# Altium schematic symbol library NSC Audio.SchLib: 691 symbols (part 18 of 18)
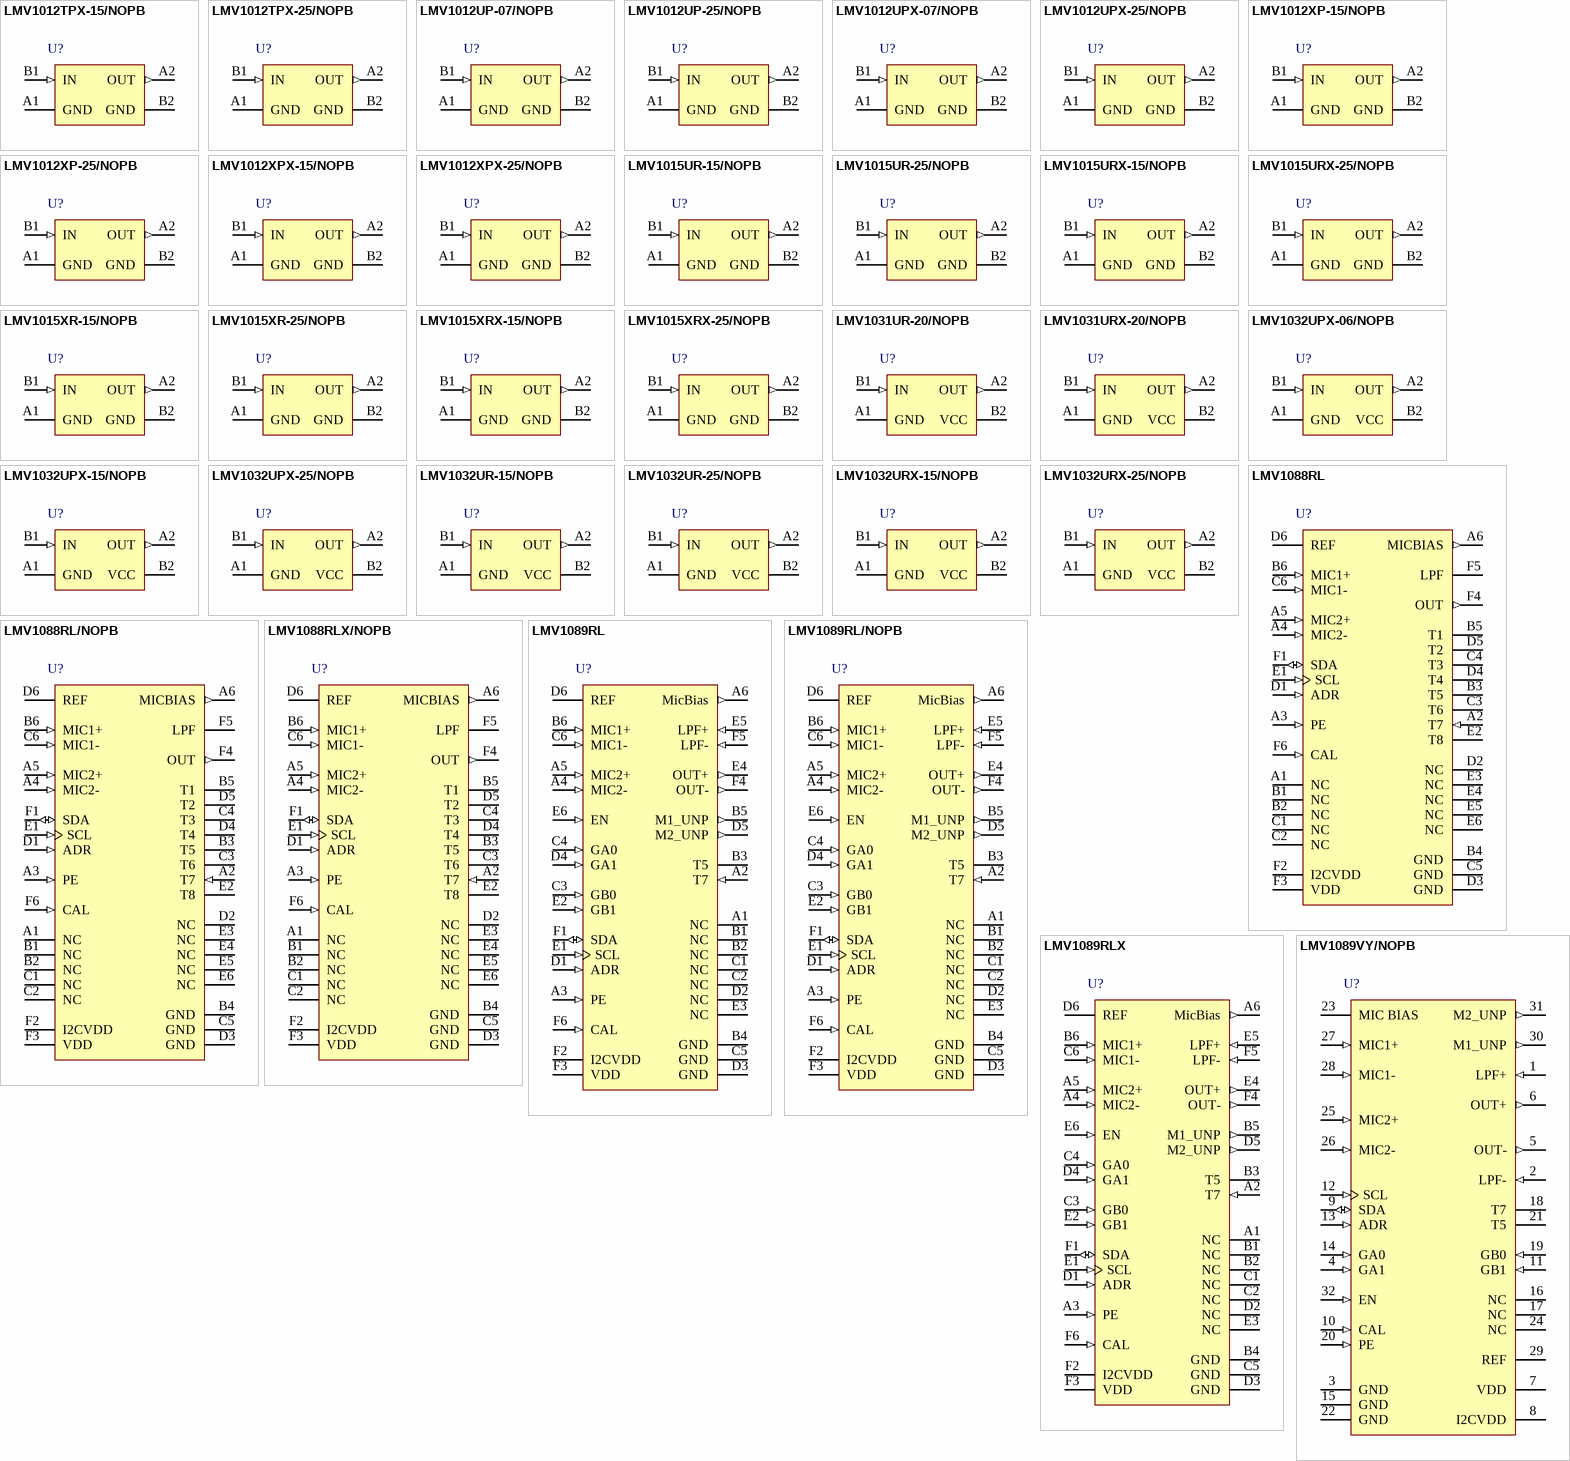
[diagram p44: symbols LMV1012TPX-15/NOPB to LMV1089VY/NOPB]

## LMV1015URX-15/NOPB
designator U?
Analog Series Built-in Gain IC's for High Sensitivity 2-Wire Microphones, 4 pin MICRO SMD; PartNumber: LMV1015URX-15/NOPB; Manufacturer: National Semiconductor; PackageTopMarking: X*I; PowerWise: N; CompType: Audio IC; Published: 16-Nov-2010; DatasheetVersion: May-2005; PackageVersion: revC, Mar-2005; PackageReference: URA04ADA; Publisher: Altium Limited; PackageDescription: Ultra Thin Micro SMD, 4 Bump (Large), 0.5mm Pitch; Supplier 1: Digi-Key; Supplier Part Number 1: LMV1015URX-15-ND; RoHS: Y; PinCount: 4; ComponentLink1Description: LMV1015 Datasheet; ComponentLink1URL: http://www.national.com/ds/LM/LMV1015.pdf; ComponentLink2Description: LMV1015 Web Page; ComponentLink2URL: http://www.national.com/pf/LM/LMV1015.html; ComponentLink3Description: URA04ADA Package Page; ComponentLink3URL: http://www.national.com/packaging/folders/ura04ada.html
footprint URA04ADA (Micro SMD, 4-Leads, Body 1.05x0.98mm, Pitch 0.5mm, NSC Recommended)
pins: A1 GND (power), A2 OUT (out), B1 IN (in), B2 GND (power)

## LMV1015URX-25/NOPB
designator U?
Analog Series Built-in Gain IC's for High Sensitivity 2-Wire Microphones, 4 pin MICRO SMD; PartNumber: LMV1015URX-25/NOPB; Manufacturer: National Semiconductor; PackageTopMarking: X*I; PowerWise: N; CompType: Audio IC; Published: 16-Nov-2010; DatasheetVersion: May-2005; PackageVersion: revC, Mar-2005; PackageReference: URA04ADA; Publisher: Altium Limited; PackageDescription: Ultra Thin Micro SMD, 4 Bump (Large), 0.5mm Pitch; Supplier 1: Digi-Key; Supplier Part Number 1: LMV1015URX-25-ND; RoHS: Y; PinCount: 4; ComponentLink1Description: LMV1015 Datasheet; ComponentLink1URL: http://www.national.com/ds/LM/LMV1015.pdf; ComponentLink2Description: LMV1015 Web Page; ComponentLink2URL: http://www.national.com/pf/LM/LMV1015.html; ComponentLink3Description: URA04ADA Package Page; ComponentLink3URL: http://www.national.com/packaging/folders/ura04ada.html
footprint URA04ADA (Micro SMD, 4-Leads, Body 1.05x0.98mm, Pitch 0.5mm, NSC Recommended)
pins: A1 GND (power), A2 OUT (out), B1 IN (in), B2 GND (power)

## LMV1015XR-15/NOPB
designator U?
Analog Series Built-in Gain IC's for High Sensitivity 2-Wire Microphones, 4-pin Micro SMD, Pb-Free; PartNumber: LMV1015XRX-15/NOPB; Manufacturer: National Semiconductor; PackageTopMarking: X*I; PowerWise: N; CompType: Audio IC; Published: 1-Mar-2010; DatasheetVersion: May-2005; PackageVersion: revA, Nov-2004; PackageReference: XRA04ADA; Publisher: Altium Limited; PackageDescription: Extreme Thin Micro SMD,4 Bump, Printed Bumps, 0.5mm Pitch; Supplier 1: Digi-Key; Supplier Part Number 1: LMV1015XR-15TR-ND; Supplier 2: Digi-Key; Supplier Part Number 2: LMV1015XR-15CT-ND; Supplier 3: Digi-Key; Supplier Part Number 3: LMV1015XR-15DKR-ND; RoHS: Y; PinCount: 4; ComponentLink1Description: LMV1015 Datasheet; ComponentLink1URL: http://www.national.com/ds/LM/LMV1015.pdf; ComponentLink2Description: LMV1015 Web Page; ComponentLink2URL: http://www.national.com/pf/LM/LMV1015.html; ComponentLink3Description: XRA04ADA Package Page; ComponentLink3URL: http://www.national.com/packaging/folders/xra04ada.html
footprint XRA04ADA (Micro SMD, 4-Leads, Body 1.05x0.98mm, Pitch 0.5mm, NSC Recommended)
pins: A1 GND (power), A2 OUT (out), B1 IN (in), B2 GND (power)

## LMV1015XR-25/NOPB
designator U?
Analog Series Built-in Gain IC's for High Sensitivity 2-Wire Microphones, 4-pin Micro SMD, Pb-Free; PartNumber: LMV1015XRX-25/NOPB; Manufacturer: National Semiconductor; PackageTopMarking: X*I; PowerWise: N; CompType: Audio IC; Published: 1-Mar-2010; DatasheetVersion: May-2005; PackageVersion: revA, Nov-2004; PackageReference: XRA04ADA; Publisher: Altium Limited; PackageDescription: Extreme Thin Micro SMD,4 Bump, Printed Bumps, 0.5mm Pitch; Supplier 1: Digi-Key; Supplier Part Number 1: LMV1015XR-25TR-ND; Supplier 2: Digi-Key; Supplier Part Number 2: LMV1015XR-25CT-ND; Supplier 3: Digi-Key; Supplier Part Number 3: LMV1015XR-25DKR-ND; RoHS: Y; PinCount: 4; ComponentLink1Description: LMV1015 Datasheet; ComponentLink1URL: http://www.national.com/ds/LM/LMV1015.pdf; ComponentLink2Description: LMV1015 Web Page; ComponentLink2URL: http://www.national.com/pf/LM/LMV1015.html; ComponentLink3Description: XRA04ADA Package Page; ComponentLink3URL: http://www.national.com/packaging/folders/xra04ada.html
footprint XRA04ADA (Micro SMD, 4-Leads, Body 1.05x0.98mm, Pitch 0.5mm, NSC Recommended)
pins: A1 GND (power), A2 OUT (out), B1 IN (in), B2 GND (power)

## LMV1015XRX-15/NOPB
designator U?
Analog Series Built-in Gain IC's for High Sensitivity 2-Wire Microphones, 4 pin MICRO SMD; PartNumber: LMV1015XRX-15/NOPB; Manufacturer: National Semiconductor; PackageTopMarking: X*I; PowerWise: N; CompType: Audio IC; Published: 16-Nov-2010; DatasheetVersion: May-2005; PackageVersion: revA, Nov-2004; PackageReference: XRA04ADA; Publisher: Altium Limited; PackageDescription: Extreme Thin Micro SMD,4 Bump, Printed Bumps, 0.5mm Pitch; Supplier 1: Digi-Key; Supplier Part Number 1: LMV1015XRX-15-ND; RoHS: Y; PinCount: 4; ComponentLink1Description: LMV1015 Datasheet; ComponentLink1URL: http://www.national.com/ds/LM/LMV1015.pdf; ComponentLink2Description: LMV1015 Web Page; ComponentLink2URL: http://www.national.com/pf/LM/LMV1015.html; ComponentLink3Description: XRA04ADA Package Page; ComponentLink3URL: http://www.national.com/packaging/folders/xra04ada.html
footprint XRA04ADA (Micro SMD, 4-Leads, Body 1.05x0.98mm, Pitch 0.5mm, NSC Recommended)
pins: A1 GND (power), A2 OUT (out), B1 IN (in), B2 GND (power)

## LMV1015XRX-25/NOPB
designator U?
Analog Series Built-in Gain IC's for High Sensitivity 2-Wire Microphones, 4 pin MICRO SMD; PartNumber: LMV1015XRX-25/NOPB; Manufacturer: National Semiconductor; PackageTopMarking: X*I; PowerWise: N; CompType: Audio IC; Published: 16-Nov-2010; DatasheetVersion: May-2005; PackageVersion: revA, Nov-2004; PackageReference: XRA04ADA; Publisher: Altium Limited; PackageDescription: Extreme Thin Micro SMD,4 Bump, Printed Bumps, 0.5mm Pitch; Supplier 1: Digi-Key; Supplier Part Number 1: LMV1015XRX-25-ND; RoHS: Y; PinCount: 4; ComponentLink1Description: LMV1015 Datasheet; ComponentLink1URL: http://www.national.com/ds/LM/LMV1015.pdf; ComponentLink2Description: LMV1015 Web Page; ComponentLink2URL: http://www.national.com/pf/LM/LMV1015.html; ComponentLink3Description: XRA04ADA Package Page; ComponentLink3URL: http://www.national.com/packaging/folders/xra04ada.html
footprint XRA04ADA (Micro SMD, 4-Leads, Body 1.05x0.98mm, Pitch 0.5mm, NSC Recommended)
pins: A1 GND (power), A2 OUT (out), B1 IN (in), B2 GND (power)

## LMV1031UR-20/NOPB
designator U?
Amplifier for Internal 3- Wire Analog Microphones and External Preamplifier, 4-pin Micro SMD, Pb-Free; PartNumber: LMV1031UR-20/NOPB; Manufacturer: National Semiconductor; PackageTopMarking: X*I; PowerWise: N; CompType: Audio IC; Published: 1-Mar-2010; DatasheetVersion: Oct-2005; PackageVersion: revC, Mar-2005; PackageReference: URA04JJA; Publisher: Altium Limited; PackageDescription: Ultra Thin Micro SMD, 4 Bump (Large), 0.5mm Pitch; Supplier 1: Digi-Key; Supplier Part Number 1: LMV1031UR-20TR-ND; Supplier 2: Digi-Key; Supplier Part Number 2: LMV1031UR-20CT-ND; Supplier 3: Digi-Key; Supplier Part Number 3: LMV1031UR-20DKR-ND; RoHS: Y; PinCount: 4; ComponentLink1Description: LMV1031 Datasheet; ComponentLink1URL: http://www.national.com/ds/LM/LMV1031.pdf; ComponentLink2Description: LMV1031 Web Page; ComponentLink2URL: http://www.national.com/pf/LM/LMV1031.html; ComponentLink3Description: URA04JJA Package Page; ComponentLink3URL: http://www.national.com/packaging/folders/ura04jja.html
footprint URA04JJA (Micro SMD, 4-Leads, Body 1.18x1.18mm, Pitch 0.5mm, NSC Recommended)
pins: A1 GND (power), A2 OUT (out), B1 IN (in), B2 VCC (power)

## LMV1031URX-20/NOPB
designator U?
Amplifier for Internal 3- Wire Analog Microphones and External Preamplifier, 4-pin Micro SMD, Pb-Free; PartNumber: LMV1031URX-20/NOPB; Manufacturer: National Semiconductor; PackageTopMarking: X*I; PowerWise: N; CompType: Audio IC; Published: 1-Mar-2010; DatasheetVersion: Oct-2005; PackageVersion: revC, Mar-2005; PackageReference: URA04JJA; Publisher: Altium Limited; PackageDescription: Ultra Thin Micro SMD, 4 Bump (Large), 0.5mm Pitch; Supplier 1: Digi-Key; Supplier Part Number 1: LMV1031URX-20-ND; RoHS: Y; PinCount: 4; ComponentLink1Description: LMV1031 Datasheet; ComponentLink1URL: http://www.national.com/ds/LM/LMV1031.pdf; ComponentLink2Description: LMV1031 Web Page; ComponentLink2URL: http://www.national.com/pf/LM/LMV1031.html; ComponentLink3Description: URA04JJA Package Page; ComponentLink3URL: http://www.national.com/packaging/folders/ura04jja.html
footprint URA04JJA (Micro SMD, 4-Leads, Body 1.18x1.18mm, Pitch 0.5mm, NSC Recommended)
pins: A1 GND (power), A2 OUT (out), B1 IN (in), B2 VCC (power)

## LMV1032UPX-06/NOPB
designator U?
Amplifiers for 3-Wire Analog Electret Microphones, 4-pin Micro SMD, Pb-Free; PartNumber: LMV1032UPX-06/NOPB; Manufacturer: National Semiconductor; PackageTopMarking: X*I; PowerWise: N; CompType: Audio IC; Published: 1-Mar-2010; DatasheetVersion: Nov-2005; PackageVersion: revB, Mar-2003; PackageReference: UPA04QQA; Publisher: Altium Limited; PackageDescription: Ultra Thin Micro SMD, 4 Bump, 0.5mm Pitch; Supplier 1: Digi-Key; Supplier Part Number 1: LMV1032UPX-06TR-ND; Supplier 2: Digi-Key; Supplier Part Number 2: LMV1032UPX-06CT-ND; Supplier 3: Digi-Key; Supplier Part Number 3: LMV1032UPX-06DKR-ND; RoHS: Y; PinCount: 4; Code_JEDEC: MO-211-CA; ComponentLink1Description: LMV1032 Datasheet; ComponentLink1URL: http://www.national.com/ds/LM/LMV1032.pdf; ComponentLink2Description: LMV1032 Web Page; ComponentLink2URL: http://www.national.com/pf/LM/LMV1032.html; ComponentLink3Description: UPA04QQA Package Page; ComponentLink3URL: http://www.national.com/packaging/folders/upa04qqa.html
footprint UPA04QQA (Micro SMD, 4-Leads, Body 1.13x1.13mm, Pitch 0.5mm, NSC Recommended)
pins: A1 GND (power), A2 OUT (out), B1 IN (in), B2 VCC (power)

## LMV1032UPX-15/NOPB
designator U?
Amplifiers for 3-Wire Analog Electret Microphones, 4-pin Micro SMD, Pb-Free; PartNumber: LMV1032UPX-15/NOPB; Manufacturer: National Semiconductor; PackageTopMarking: X*I; PowerWise: N; CompType: Audio IC; Published: 1-Mar-2010; DatasheetVersion: Nov-2005; PackageVersion: revB, Mar-2003; PackageReference: UPA04QQA; Publisher: Altium Limited; PackageDescription: Ultra Thin Micro SMD, 4 Bump, 0.5mm Pitch; Supplier 1: Digi-Key; Supplier Part Number 1: LMV1032UPX-15-ND; RoHS: Y; PinCount: 4; Code_JEDEC: MO-211-CA; ComponentLink1Description: LMV1032 Datasheet; ComponentLink1URL: http://www.national.com/ds/LM/LMV1032.pdf; ComponentLink2Description: LMV1032 Web Page; ComponentLink2URL: http://www.national.com/pf/LM/LMV1032.html; ComponentLink3Description: UPA04QQA Package Page; ComponentLink3URL: http://www.national.com/packaging/folders/upa04qqa.html
footprint UPA04QQA (Micro SMD, 4-Leads, Body 1.13x1.13mm, Pitch 0.5mm, NSC Recommended)
pins: A1 GND (power), A2 OUT (out), B1 IN (in), B2 VCC (power)

## LMV1032UPX-25/NOPB
designator U?
Amplifiers for 3-Wire Analog Electret Microphones, 4-pin Micro SMD, Pb-Free; PartNumber: LMV1032UPX-25/NOPB; Manufacturer: National Semiconductor; PackageTopMarking: X*I; PowerWise: N; CompType: Audio IC; Published: 1-Mar-2010; DatasheetVersion: Nov-2005; PackageVersion: revB, Mar-2003; PackageReference: UPA04QQA; Publisher: Altium Limited; PackageDescription: Ultra Thin Micro SMD, 4 Bump, 0.5mm Pitch; Supplier 1: Digi-Key; Supplier Part Number 1: LMV1032UPX-25-ND; RoHS: Y; PinCount: 4; Code_JEDEC: MO-211-CA; ComponentLink1Description: LMV1032 Datasheet; ComponentLink1URL: http://www.national.com/ds/LM/LMV1032.pdf; ComponentLink2Description: LMV1032 Web Page; ComponentLink2URL: http://www.national.com/pf/LM/LMV1032.html; ComponentLink3Description: UPA04QQA Package Page; ComponentLink3URL: http://www.national.com/packaging/folders/upa04qqa.html
footprint UPA04QQA (Micro SMD, 4-Leads, Body 1.13x1.13mm, Pitch 0.5mm, NSC Recommended)
pins: A1 GND (power), A2 OUT (out), B1 IN (in), B2 VCC (power)

## LMV1032UR-15/NOPB
designator U?
Amplifiers for 3-Wire Analog Electret Microphones, 4-pin Micro SMD, Pb-Free; PartNumber: LMV1032UR-15/NOPB; Manufacturer: National Semiconductor; PackageTopMarking: X*I; PowerWise: N; CompType: Audio IC; Published: 1-Mar-2010; DatasheetVersion: Nov-2005; PackageVersion: revC, Mar-2005; PackageReference: URA04JJA; Publisher: Altium Limited; PackageDescription: Ultra Thin Micro SMD, 4 Bump (Large), 0.5mm Pitch; Supplier 1: Digi-Key; Supplier Part Number 1: LMV1032UR-15TR-ND; Supplier 2: Digi-Key; Supplier Part Number 2: LMV1032UR-15CT-ND; Supplier 3: Digi-Key; Supplier Part Number 3: LMV1032UR-15DKR-ND; RoHS: Y; PinCount: 4; ComponentLink1Description: LMV1032 Datasheet; ComponentLink1URL: http://www.national.com/ds/LM/LMV1032.pdf; ComponentLink2Description: LMV1032 Web Page; ComponentLink2URL: http://www.national.com/pf/LM/LMV1032.html; ComponentLink3Description: URA04JJA Package Page; ComponentLink3URL: http://www.national.com/packaging/folders/ura04jja.html
footprint URA04JJA (Micro SMD, 4-Leads, Body 1.18x1.18mm, Pitch 0.5mm, NSC Recommended)
pins: A1 GND (power), A2 OUT (out), B1 IN (in), B2 VCC (power)

## LMV1032UR-25/NOPB
designator U?
Amplifiers for 3-Wire Analog Electret Microphones, 4-pin Micro SMD, Pb-Free; PartNumber: LMV1032UR-25/NOPB; Manufacturer: National Semiconductor; PackageTopMarking: X*I; PowerWise: N; CompType: Audio IC; Published: 1-Mar-2010; DatasheetVersion: Nov-2005; PackageVersion: revC, Mar-2005; PackageReference: URA04JJA; Publisher: Altium Limited; PackageDescription: Ultra Thin Micro SMD, 4 Bump (Large), 0.5mm Pitch; Supplier 1: Digi-Key; Supplier Part Number 1: LMV1032UR-25TR-ND; Supplier 2: Digi-Key; Supplier Part Number 2: LMV1032UR-25CT-ND; Supplier 3: Digi-Key; Supplier Part Number 3: LMV1032UR-25DKR-ND; RoHS: Y; PinCount: 4; ComponentLink1Description: LMV1032 Datasheet; ComponentLink1URL: http://www.national.com/ds/LM/LMV1032.pdf; ComponentLink2Description: LMV1032 Web Page; ComponentLink2URL: http://www.national.com/pf/LM/LMV1032.html; ComponentLink3Description: URA04JJA Package Page; ComponentLink3URL: http://www.national.com/packaging/folders/ura04jja.html
footprint URA04JJA (Micro SMD, 4-Leads, Body 1.18x1.18mm, Pitch 0.5mm, NSC Recommended)
pins: A1 GND (power), A2 OUT (out), B1 IN (in), B2 VCC (power)

## LMV1032URX-15/NOPB
designator U?
Amplifiers for 3-Wire Analog Electret Microphones, 4-pin Micro SMD, Pb-Free; PartNumber: LMV1032URX-15/NOPB; Manufacturer: National Semiconductor; PackageTopMarking: X*I; PowerWise: N; CompType: Audio IC; Published: 1-Mar-2010; DatasheetVersion: Nov-2005; PackageVersion: revC, Mar-2005; PackageReference: URA04JJA; Publisher: Altium Limited; PackageDescription: Ultra Thin Micro SMD, 4 Bump (Large), 0.5mm Pitch; Supplier 1: Digi-Key; Supplier Part Number 1: LMV1032URX-15-ND; RoHS: Y; PinCount: 4; ComponentLink1Description: LMV1032 Datasheet; ComponentLink1URL: http://www.national.com/ds/LM/LMV1032.pdf; ComponentLink2Description: LMV1032 Web Page; ComponentLink2URL: http://www.national.com/pf/LM/LMV1032.html; ComponentLink3Description: URA04JJA Package Page; ComponentLink3URL: http://www.national.com/packaging/folders/ura04jja.html
footprint URA04JJA (Micro SMD, 4-Leads, Body 1.18x1.18mm, Pitch 0.5mm, NSC Recommended)
pins: A1 GND (power), A2 OUT (out), B1 IN (in), B2 VCC (power)

## LMV1032URX-25/NOPB
designator U?
Amplifiers for 3-Wire Analog Electret Microphones, 4-pin Micro SMD, Pb-Free; PartNumber: LMV1032URX-25/NOPB; Manufacturer: National Semiconductor; PackageTopMarking: X*I; PowerWise: N; CompType: Audio IC; Published: 1-Mar-2010; DatasheetVersion: Nov-2005; PackageVersion: revC, Mar-2005; PackageReference: URA04JJA; Publisher: Altium Limited; PackageDescription: Ultra Thin Micro SMD, 4 Bump (Large), 0.5mm Pitch; Supplier 1: Digi-Key; Supplier Part Number 1: LMV1032URX-25-ND; RoHS: Y; PinCount: 4; ComponentLink1Description: LMV1032 Datasheet; ComponentLink1URL: http://www.national.com/ds/LM/LMV1032.pdf; ComponentLink2Description: LMV1032 Web Page; ComponentLink2URL: http://www.national.com/pf/LM/LMV1032.html; ComponentLink3Description: URA04JJA Package Page; ComponentLink3URL: http://www.national.com/packaging/folders/ura04jja.html
footprint URA04JJA (Micro SMD, 4-Leads, Body 1.18x1.18mm, Pitch 0.5mm, NSC Recommended)
pins: A1 GND (power), A2 OUT (out), B1 IN (in), B2 VCC (power)

## LMV1088RL
designator U?
Dual Input, Clarisound TM Far Field Noise Suppression Microphone Amplifier with Automatic Calibration Ability, 36-pin Micro SMDXT; PartNumber: LMV1088RL; Manufacturer: National Semiconductor; PackageTopMarking: XYTT*I ZA1; PowerWise: Y; CompType: Audio IC; Published: 4-Dec-2008; DatasheetVersion: Feb-2009; PackageVersion: revA, 2008; PackageReference: RLA36TTA; Publisher: Altium Limited; PackageDescription: Micro SMDxt, 36 Bump (Large), 0.5mm Pitch; RoHS: Y; PinCount: 36; ComponentLink1Description: LMV1088 Datasheet; ComponentLink1URL: http://www.national.com/ds/LM/LMV1088.pdf; ComponentLink2Description: LMV1088 Web Page; ComponentLink2URL: http://www.national.com/pf/LM/LMV1088.html
footprint RLA36TTA (Micro SMD, 36-Leads, Body 3.46x3.46mm, Pitch 0.5mm, NSC Recommended)
pins: A1 NC, A2 T7 (in), A3 PE (in), A4 MIC2- (in), A5 MIC2+ (in), A6 MICBIAS (out), B1 NC, B2 NC, B3 T5, B4 GND (power), B5 T1, B6 MIC1+ (in), C1 NC, C2 NC, C3 T6, C4 T3, C5 GND (power), C6 MIC1- (in), D1 ADR (in), D2 NC, D3 GND (power), D4 T4, D5 T2, D6 REF, E1 SCL (in), E2 T8 (power), E3 NC, E4 NC, E5 NC, E6 NC, F1 SDA (io), F2 I2CVDD (power), F3 VDD (power), F4 OUT (out), F5 LPF, F6 CAL (in)

## LMV1088RL/NOPB
designator U?
Dual Input, Far Field Noise Suppression Microphone Amplifier with Automatic Calibration Ability, 36-pin Micro SMDXT, Pb-Free; PartNumber: LMV1088RL/NOPB; Manufacturer: National Semiconductor; PackageTopMarking: XYTT*I ZA1; PowerWise: Y; CompType: Audio IC; Published: 1-Mar-2010; DatasheetVersion: Feb-2009; PackageVersion: revA, 2008; PackageReference: RLA36TTA; Publisher: Altium Limited; PackageDescription: Micro SMDxt, 36 Bump (Large), 0.5mm Pitch; Supplier 1: Digi-Key; Supplier Part Number 1: LMV1088RLTR-ND; Supplier 2: Digi-Key; Supplier Part Number 2: LMV1088RLCT-ND; Supplier 3: Digi-Key; Supplier Part Number 3: LMV1088RLDKR-ND; Supplier 4: Farnell; Supplier Part Number 4: 1694607; RoHS: Y; PinCount: 36; ComponentLink1Description: LMV1088 Datasheet; ComponentLink1URL: http://www.national.com/ds/LM/LMV1088.pdf; ComponentLink2Description: LMV1088 Web Page; ComponentLink2URL: http://www.national.com/pf/LM/LMV1088.html; ComponentLink3Description: RLA36TTA Package Page; ComponentLink3URL: http://www.national.com/packaging/folders/rla36tta.html
footprint RLA36TTA (Micro SMD, 36-Leads, Body 3.46x3.46mm, Pitch 0.5mm, NSC Recommended)
pins: A1 NC, A2 T7 (in), A3 PE (in), A4 MIC2- (in), A5 MIC2+ (in), A6 MICBIAS (out), B1 NC, B2 NC, B3 T5, B4 GND (power), B5 T1, B6 MIC1+ (in), C1 NC, C2 NC, C3 T6, C4 T3, C5 GND (power), C6 MIC1- (in), D1 ADR (in), D2 NC, D3 GND (power), D4 T4, D5 T2, D6 REF, E1 SCL (in), E2 T8 (power), E3 NC, E4 NC, E5 NC, E6 NC, F1 SDA (io), F2 I2CVDD (power), F3 VDD (power), F4 OUT (out), F5 LPF, F6 CAL (in)

## LMV1088RLX/NOPB
designator U?
Dual Input, Far Field Noise Suppression Microphone Amplifier with Automatic Calibration Ability, 36-pin Micro SMDXT, Pb-Free; PartNumber: LMV1088RLX/NOPB; Manufacturer: National Semiconductor; PackageTopMarking: XYTT*I ZA1; PowerWise: Y; CompType: Audio IC; Published: 1-Mar-2010; DatasheetVersion: Feb-2009; PackageVersion: revA, 2008; PackageReference: RLA36TTA; Publisher: Altium Limited; PackageDescription: Micro SMDxt, 36 Bump (Large), 0.5mm Pitch; Supplier 1: Digi-Key; Supplier Part Number 1: LMV1088RLX-ND; RoHS: Y; PinCount: 36; ComponentLink1Description: LMV1088 Datasheet; ComponentLink1URL: http://www.national.com/ds/LM/LMV1088.pdf; ComponentLink2Description: LMV1088 Web Page; ComponentLink2URL: http://www.national.com/pf/LM/LMV1088.html; ComponentLink3Description: RLA36TTA Package Page; ComponentLink3URL: http://www.national.com/packaging/folders/rla36tta.html
footprint RLA36TTA (Micro SMD, 36-Leads, Body 3.46x3.46mm, Pitch 0.5mm, NSC Recommended)
pins: A1 NC, A2 T7 (in), A3 PE (in), A4 MIC2- (in), A5 MIC2+ (in), A6 MICBIAS (out), B1 NC, B2 NC, B3 T5, B4 GND (power), B5 T1, B6 MIC1+ (in), C1 NC, C2 NC, C3 T6, C4 T3, C5 GND (power), C6 MIC1- (in), D1 ADR (in), D2 NC, D3 GND (power), D4 T4, D5 T2, D6 REF, E1 SCL (in), E2 T8 (power), E3 NC, E4 NC, E5 NC, E6 NC, F1 SDA (io), F2 I2CVDD (power), F3 VDD (power), F4 OUT (out), F5 LPF, F6 CAL (in)

## LMV1089RL
designator U?
Dual Input, ClarisoundTM Far Field Noise Suppression Microphone Amplifier with Automatic Calibration Capability, 36-pin Micro SMDXT; PartNumber: LMV1089RL; Manufacturer: National Semiconductor; PackageTopMarking: XYTT*I ZA2; PowerWise: Y; CompType: Audio IC; Published: 4-Dec-2008; LatestRevisionDate: 1-Mar-2010; LatestRevisionNote: Updated datasheet to version Jul-2009.; DatasheetVersion: Jul-2009; PackageVersion: revA, 2008; PackageReference: RLA36TTA; Publisher: Altium Limited; PackageDescription: Micro SMDxt, 36 Bump (Large), 0.5mm Pitch; Supplier 1: Farnell; Supplier Part Number 1: 1667419; RoHS: N; PinCount: 36; ComponentLink1Description: LMV1089 Datasheet; ComponentLink1URL: http://www.national.com/ds/LM/LMV1089.pdf; ComponentLink2Description: LMV1089 Web Page; ComponentLink2URL: http://www.national.com/pf/LM/LMV1089.html; ComponentLink3Description: RLA36TTA Package Page; ComponentLink3URL: http://www.national.com/packaging/folders/rla36tta.html
footprint RLA36TTA (Micro SMD, 36-Leads, Body 3.46x3.46mm, Pitch 0.5mm, NSC Recommended)
pins: A1 NC, A2 T7 (in), A3 PE (in), A4 MIC2- (in), A5 MIC2+ (in), A6 MicBias (out), B1 NC, B2 NC, B3 T5, B4 GND (power), B5 M1_UNP (out), B6 MIC1+ (in), C1 NC, C2 NC, C3 GB0 (in), C4 GA0 (in), C5 GND (power), C6 MIC1- (in), D1 ADR (in), D2 NC, D3 GND (power), D4 GA1 (in), D5 M2_UNP (out), D6 REF, E1 SCL (in), E2 GB1 (in), E3 NC, E4 OUT+ (out), E5 LPF+ (in), E6 EN (in), F1 SDA (io), F2 I2CVDD (power), F3 VDD (power), F4 OUT- (out), F5 LPF- (in), F6 CAL (in)

## LMV1089RL/NOPB
designator U?
Dual Input, Far Field Noise Suppression Microphone Amplifier with Automatic Calibration Capability, 36-pin Micro SMDXT, Pb-Free; PartNumber: LMV1089RL/NOPB; Manufacturer: National Semiconductor; PackageTopMarking: XYTT*I ZA2; PowerWise: Y; CompType: Audio IC; Published: 1-Mar-2010; DatasheetVersion: Jul-2009; PackageVersion: revA, 2008; PackageReference: RLA36TTA; Publisher: Altium Limited; PackageDescription: Micro SMDxt, 36 Bump (Large), 0.5mm Pitch; Supplier 1: Digi-Key; Supplier Part Number 1: LMV1089RLTR-ND; Supplier 2: Digi-Key; Supplier Part Number 2: LMV1089RLCT-ND; Supplier 3: Digi-Key; Supplier Part Number 3: LMV1089RLDKR-ND; RoHS: Y; PinCount: 36; ComponentLink1Description: LMV1089 Datasheet; ComponentLink1URL: http://www.national.com/ds/LM/LMV1089.pdf; ComponentLink2Description: LMV1089 Web Page; ComponentLink2URL: http://www.national.com/pf/LM/LMV1089.html; ComponentLink3Description: RLA36TTA Package Page; ComponentLink3URL: http://www.national.com/packaging/folders/rla36tta.html
footprint RLA36TTA (Micro SMD, 36-Leads, Body 3.46x3.46mm, Pitch 0.5mm, NSC Recommended)
pins: A1 NC, A2 T7 (in), A3 PE (in), A4 MIC2- (in), A5 MIC2+ (in), A6 MicBias (out), B1 NC, B2 NC, B3 T5, B4 GND (power), B5 M1_UNP (out), B6 MIC1+ (in), C1 NC, C2 NC, C3 GB0 (in), C4 GA0 (in), C5 GND (power), C6 MIC1- (in), D1 ADR (in), D2 NC, D3 GND (power), D4 GA1 (in), D5 M2_UNP (out), D6 REF, E1 SCL (in), E2 GB1 (in), E3 NC, E4 OUT+ (out), E5 LPF+ (in), E6 EN (in), F1 SDA (io), F2 I2CVDD (power), F3 VDD (power), F4 OUT- (out), F5 LPF- (in), F6 CAL (in)

## LMV1089RLX
designator U?
Dual Input, Far Field Noise Suppression Microphone Amplifier with Automatic Calibration Capability, 36-pin Micro SMDXT; PartNumber: LMV1089RLX; Manufacturer: National Semiconductor; PackageTopMarking: XYTT*I ZA2; PowerWise: Y; CompType: Audio IC; Published: 1-Mar-2010; DatasheetVersion: Jul-2009; PackageVersion: revA, 2008; PackageReference: RLA36TTA; Publisher: Altium Limited; PackageDescription: Micro SMDxt, 36 Bump (Large), 0.5mm Pitch; RoHS: N; PinCount: 36; ComponentLink1Description: LMV1089 Datasheet; ComponentLink1URL: http://www.national.com/ds/LM/LMV1089.pdf; ComponentLink2Description: LMV1089 Web Page; ComponentLink2URL: http://www.national.com/pf/LM/LMV1089.html; ComponentLink3Description: RLA36TTA Package Page; ComponentLink3URL: http://www.national.com/packaging/folders/rla36tta.html
footprint RLA36TTA (Micro SMD, 36-Leads, Body 3.46x3.46mm, Pitch 0.5mm, NSC Recommended)
pins: A1 NC, A2 T7 (in), A3 PE (in), A4 MIC2- (in), A5 MIC2+ (in), A6 MicBias (out), B1 NC, B2 NC, B3 T5, B4 GND (power), B5 M1_UNP (out), B6 MIC1+ (in), C1 NC, C2 NC, C3 GB0 (in), C4 GA0 (in), C5 GND (power), C6 MIC1- (in), D1 ADR (in), D2 NC, D3 GND (power), D4 GA1 (in), D5 M2_UNP (out), D6 REF, E1 SCL (in), E2 GB1 (in), E3 NC, E4 OUT+ (out), E5 LPF+ (in), E6 EN (in), F1 SDA (io), F2 I2CVDD (power), F3 VDD (power), F4 OUT- (out), F5 LPF- (in), F6 CAL (in)

## LMV1089VY/NOPB
designator U?
Dual Input, Far Field Noise Suppression Microphone Amplifier with Automatic Calibration Capability, 32-pin LQFP, Pb-Free; PartNumber: LMV1089VY/NOPB; Manufacturer: National Semiconductor; PackageTopMarking: NSUZXYTT*LMV1089*VY; PowerWise: Y; CompType: Audio IC; Published: 1-Mar-2010; DatasheetVersion: Jul-2009; PackageVersion: revE, Dec-1999; PackageReference: VBE32A; Publisher: Altium Limited; PackageDescription: LQFP, JEDEC, Metric, 7 x 7 x 1.4mm, 32 Lead; Supplier 1: Digi-Key; Supplier Part Number 1: LMV1089VY-ND; Supplier 2: Digi-Key; Supplier Part Number 2: LMV1089VYTR-ND; Supplier 3: Digi-Key; Supplier Part Number 3: LMV1089VYDKR-ND; RoHS: Y; PinCount: 32; ComponentLink1Description: LMV1089 Datasheet; ComponentLink1URL: http://www.national.com/ds/LM/LMV1089.pdf; ComponentLink2Description: LMV1089 Web Page; ComponentLink2URL: http://www.national.com/pf/LM/LMV1089.html; ComponentLink3Description: VBE32A Package Page; ComponentLink3URL: http://www.national.com/packaging/folders/vbe32a.html
footprint VBE32A_N (Thin QFP, 32-Leads, Body 7x7mm, Pitch 0.8mm, IPC Medium Density)
footprint VBE32A_L (Thin QFP, 32-Leads, Body 7x7mm, Pitch 0.8mm, IPC High Density)
footprint VBE32A_M (Thin QFP, 32-Leads, Body 7x7mm, Pitch 0.8mm, IPC Low Density)
pins: 1 LPF+ (in), 2 LPF- (in), 3 GND (power), 4 GA1 (in), 5 OUT- (out), 6 OUT+ (out), 7 VDD (power), 8 I2CVDD (power), 9 SDA (io), 10 CAL (in), 11 GB1 (in), 12 SCL (in), 13 ADR (in), 14 GA0 (in), 15 GND (power), 16 NC, 17 NC, 18 T7, 19 GB0 (in), 20 PE (in), 21 T5, 22 GND (power), 23 MIC BIAS, 24 NC, 25 MIC2+ (in), 26 MIC2- (in), 27 MIC1+ (in), 28 MIC1- (in), 29 REF (power), 30 M1_UNP (out), 31 M2_UNP (out), 32 EN (in)

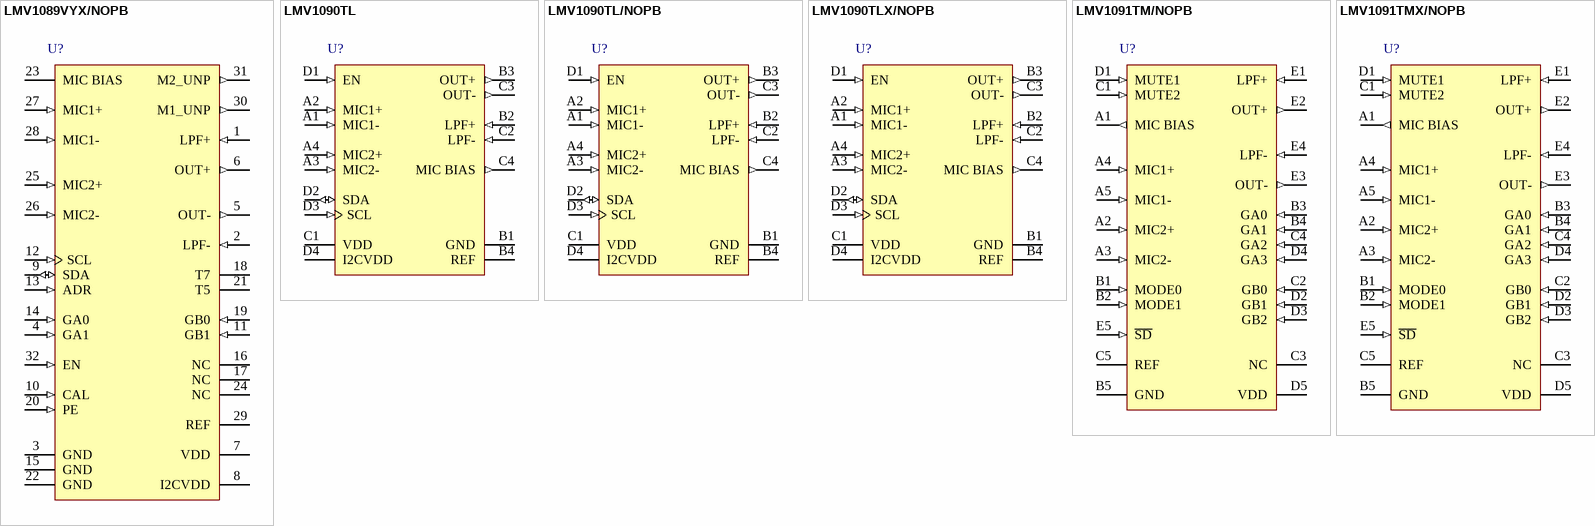
[diagram p27: symbols LMV1089VYX/NOPB to LMV1091TMX/NOPB]

## LMV1089VYX/NOPB
designator U?
Dual Input, Far Field Noise Suppression Microphone Amplifier with Automatic Calibration Capability, 32-pin LQFP, Pb-Free; PartNumber: LMV1089VYX/NOPB; Manufacturer: National Semiconductor; PackageTopMarking: NSUZXYTT*LMV1089*VY; PowerWise: Y; CompType: Audio IC; Published: 1-Mar-2010; DatasheetVersion: Jul-2009; PackageVersion: revE, Dec-1999; PackageReference: VBE32A; Publisher: Altium Limited; PackageDescription: LQFP, JEDEC, Metric, 7 x 7 x 1.4mm, 32 Lead; Supplier 1: Digi-Key; Supplier Part Number 1: LMV1089VYX-ND; RoHS: Y; PinCount: 32; ComponentLink1Description: LMV1089 Datasheet; ComponentLink1URL: http://www.national.com/ds/LM/LMV1089.pdf; ComponentLink2Description: LMV1089 Web Page; ComponentLink2URL: http://www.national.com/pf/LM/LMV1089.html; ComponentLink3Description: VBE32A Package Page; ComponentLink3URL: http://www.national.com/packaging/folders/vbe32a.html
footprint VBE32A_N (Thin QFP, 32-Leads, Body 7x7mm, Pitch 0.8mm, IPC Medium Density)
footprint VBE32A_L (Thin QFP, 32-Leads, Body 7x7mm, Pitch 0.8mm, IPC High Density)
footprint VBE32A_M (Thin QFP, 32-Leads, Body 7x7mm, Pitch 0.8mm, IPC Low Density)
pins: 1 LPF+ (in), 2 LPF- (in), 3 GND (power), 4 GA1 (in), 5 OUT- (out), 6 OUT+ (out), 7 VDD (power), 8 I2CVDD (power), 9 SDA (io), 10 CAL (in), 11 GB1 (in), 12 SCL (in), 13 ADR (in), 14 GA0 (in), 15 GND (power), 16 NC, 17 NC, 18 T7, 19 GB0 (in), 20 PE (in), 21 T5, 22 GND (power), 23 MIC BIAS, 24 NC, 25 MIC2+ (in), 26 MIC2- (in), 27 MIC1+ (in), 28 MIC1- (in), 29 REF (power), 30 M1_UNP (out), 31 M2_UNP (out), 32 EN (in)

## LMV1090TL
designator U?
Dual Input, Far Field Noise Suppression Microphone Amplifier, 16-pin Micro SMD; PartNumber: LMV1090TL; Manufacturer: National Semiconductor; PackageTopMarking: XYTT*I ZA3; PowerWise: Y; CompType: Audio IC; Published: 9-Oct-2009; DatasheetVersion: Oct-2009; PackageVersion: revC, Jan-2004; PackageReference: TLA1611A; Publisher: Altium Limited; PackageDescription: Thin Micro SMD, 16 Bump (Large), 0.5mm Pitch; RoHS: Y; PinCount: 16; Code_JEDEC: MO-211-DF; ComponentLink1Description: LMV1090 Datasheet; ComponentLink1URL: http://www.national.com/ds/LM/LMV1090.pdf; ComponentLink2Description: LMV1090 Web Page; ComponentLink2URL: http://www.national.com/pf/LM/LMV1090.html; ComponentLink3Description: TLA1611A Package Page; ComponentLink3URL: http://www.national.com/packaging/folders/tla1611a.html
footprint TLA1611A (Micro SMD, 16-Leads, Body 1.97x1.97mm, Pitch 0.5mm, NSC Recommended)
pins: A1 MIC1- (in), A2 MIC1+ (in), A3 MIC2- (in), A4 MIC2+ (in), B1 GND (power), B2 LPF+ (in), B3 OUT+ (out), B4 REF, C1 VDD (power), C2 LPF- (in), C3 OUT- (out), C4 MIC BIAS (out), D1 EN (in), D2 SDA (io), D3 SCL (in), D4 I2CVDD (power)

## LMV1090TL/NOPB
designator U?
Dual Input, Far Field Noise Suppression Microphone Amplifier, 16-pin Micro SMD, Pb-Free; PartNumber: LMV1090TL/NOPB; Manufacturer: National Semiconductor; PackageTopMarking: XYTT*I ZA3; PowerWise: Y; CompType: Audio IC; Published: 1-Mar-2010; DatasheetVersion: Oct-2009; PackageVersion: revC, Jan-2004; PackageReference: TLA1611A; Publisher: Altium Limited; PackageDescription: Thin Micro SMD, 16 Bump (Large), 0.5mm Pitch; Supplier 1: Digi-Key; Supplier Part Number 1: LMV1090TLTR-ND; Supplier 2: Digi-Key; Supplier Part Number 2: LMV1090TLCT-ND; Supplier 3: Digi-Key; Supplier Part Number 3: LMV1090TLDKR-ND; RoHS: Y; PinCount: 16; Code_JEDEC: MO-211-DF; ComponentLink1Description: LMV1090 Datasheet; ComponentLink1URL: http://www.national.com/ds/LM/LMV1090.pdf; ComponentLink2Description: LMV1090 Web Page; ComponentLink2URL: http://www.national.com/pf/LM/LMV1090.html; ComponentLink3Description: TLA1611A Package Page; ComponentLink3URL: http://www.national.com/packaging/folders/tla1611a.html
footprint TLA1611A (Micro SMD, 16-Leads, Body 1.97x1.97mm, Pitch 0.5mm, NSC Recommended)
pins: A1 MIC1- (in), A2 MIC1+ (in), A3 MIC2- (in), A4 MIC2+ (in), B1 GND (power), B2 LPF+ (in), B3 OUT+ (out), B4 REF, C1 VDD (power), C2 LPF- (in), C3 OUT- (out), C4 MIC BIAS (out), D1 EN (in), D2 SDA (io), D3 SCL (in), D4 I2CVDD (power)

## LMV1090TLX/NOPB
designator U?
Dual Input, Far Field Noise Suppression Microphone Amplifier, 16-pin Micro SMD, Pb-Free; PartNumber: LMV1090TLX/NOPB; Manufacturer: National Semiconductor; PackageTopMarking: XYTT*I ZA3; PowerWise: Y; CompType: Audio IC; Published: 1-Mar-2010; DatasheetVersion: Oct-2009; PackageVersion: revC, Jan-2004; PackageReference: TLA1611A; Publisher: Altium Limited; PackageDescription: Thin Micro SMD, 16 Bump (Large), 0.5mm Pitch; Supplier 1: Digi-Key; Supplier Part Number 1: LMV1090TLX-ND; RoHS: Y; PinCount: 16; Code_JEDEC: MO-211-DF; ComponentLink1Description: LMV1090 Datasheet; ComponentLink1URL: http://www.national.com/ds/LM/LMV1090.pdf; ComponentLink2Description: LMV1090 Web Page; ComponentLink2URL: http://www.national.com/pf/LM/LMV1090.html; ComponentLink3Description: TLA1611A Package Page; ComponentLink3URL: http://www.national.com/packaging/folders/tla1611a.html
footprint TLA1611A (Micro SMD, 16-Leads, Body 1.97x1.97mm, Pitch 0.5mm, NSC Recommended)
pins: A1 MIC1- (in), A2 MIC1+ (in), A3 MIC2- (in), A4 MIC2+ (in), B1 GND (power), B2 LPF+ (in), B3 OUT+ (out), B4 REF, C1 VDD (power), C2 LPF- (in), C3 OUT- (out), C4 MIC BIAS (out), D1 EN (in), D2 SDA (io), D3 SCL (in), D4 I2CVDD (power)

## LMV1091TM/NOPB
designator U?
Dual Input, Far Field Noise Suppression Microphone Amplifier, 25-pin Micro SMD, Pb-Free; PartNumber: LMV1091TM/NOPB; Manufacturer: National Semiconductor; PackageTopMarking: XYTT*I ZA4; PowerWise: Y; CompType: Audio IC; Published: 1-Mar-2010; DatasheetVersion: Oct-2009; PackageVersion: revC, 2009; PackageReference: TMD25AAA; Publisher: Altium Limited; PackageDescription: Thin Micro SMD, 25 Bump, 0.4mm Pitch; Supplier 1: Digi-Key; Supplier Part Number 1: LMV1091TMTR-ND; Supplier 2: Digi-Key; Supplier Part Number 2: LMV1091TMCT-ND; Supplier 3: Digi-Key; Supplier Part Number 3: LMV1091TMDKR-ND; RoHS: Y; PinCount: 25; ComponentLink1Description: LMV1091 Datasheet; ComponentLink1URL: http://www.national.com/ds/LM/LMV1091.pdf; ComponentLink2Description: LMV1091 Web Page; ComponentLink2URL: http://www.national.com/pf/LM/LMV1091.html; ComponentLink3Description: TMD25AAA Package Page; ComponentLink3URL: http://www.national.com/packaging/folders/tmd25aaa.html
footprint TMD25AAA (Micro SMD, 25-Leads, Body 2.02x2.02mm, Pitch 0.4mm, NSC Recommended)
pins: A1 MIC BIAS (out), A2 MIC2+ (in), A3 MIC2- (in), A4 MIC1+ (in), A5 MIC1- (in), B1 MODE0 (in), B2 MODE1 (in), B3 GA0 (in), B4 GA1 (in), B5 GND (power), C1 MUTE2 (in), C2 GB0 (in), C3 NC, C4 GA2 (in), C5 REF (power), D1 MUTE1 (in), D2 GB1 (in), D3 GB2 (in), D4 GA3 (in), D5 VDD (power), E1 LPF+ (in), E2 OUT+ (out), E3 OUT- (out), E4 LPF- (in), E5 ~{SD} (in)

## LMV1091TMX/NOPB
designator U?
Dual Input, Far Field Noise Suppression Microphone Amplifier, 25-pin Micro SMD, Pb-Free; PartNumber: LMV1091TMX/NOPB; Manufacturer: National Semiconductor; PackageTopMarking: XYTT*I ZA4; PowerWise: Y; CompType: Audio IC; Published: 1-Mar-2010; DatasheetVersion: Oct-2009; PackageVersion: revC, 2009; PackageReference: TMD25AAA; Publisher: Altium Limited; PackageDescription: Thin Micro SMD, 25 Bump, 0.4mm Pitch; Supplier 1: Digi-Key; Supplier Part Number 1: LMV1091TMX-ND; RoHS: Y; PinCount: 25; ComponentLink1Description: LMV1091 Datasheet; ComponentLink1URL: http://www.national.com/ds/LM/LMV1091.pdf; ComponentLink2Description: LMV1091 Web Page; ComponentLink2URL: http://www.national.com/pf/LM/LMV1091.html; ComponentLink3Description: TMD25AAA Package Page; ComponentLink3URL: http://www.national.com/packaging/folders/tmd25aaa.html
footprint TMD25AAA (Micro SMD, 25-Leads, Body 2.02x2.02mm, Pitch 0.4mm, NSC Recommended)
pins: A1 MIC BIAS (out), A2 MIC2+ (in), A3 MIC2- (in), A4 MIC1+ (in), A5 MIC1- (in), B1 MODE0 (in), B2 MODE1 (in), B3 GA0 (in), B4 GA1 (in), B5 GND (power), C1 MUTE2 (in), C2 GB0 (in), C3 NC, C4 GA2 (in), C5 REF (power), D1 MUTE1 (in), D2 GB1 (in), D3 GB2 (in), D4 GA3 (in), D5 VDD (power), E1 LPF+ (in), E2 OUT+ (out), E3 OUT- (out), E4 LPF- (in), E5 ~{SD} (in)